# Altium schematic symbol library RC1206JR-07100KL.SchLib: 1 symbol
Pins are listed as number, name and electrical type; pins without a type are passive.

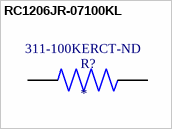
[diagram p0: symbol RC1206JR-07100KL]

## RC1206JR-07100KL
designator R?  Supplier Part Number 1: 311-100KERCT-ND
Carbon film resistor 100 kâ„¦ SMD 1206 0.25 W 5 % 200 ppm Yageo RC1206JR-07100KL 1 pc(s); Package: None; Price: None; Value: *; MP: RC1206JR-07100KL; Availability: Unavailable; Supplier 1: Digi-Key
footprint RESC3116X65N
pins: 1, 2